# EAGLE library part RESISTOR-PACK-4X (library quadparts_prebuilt)
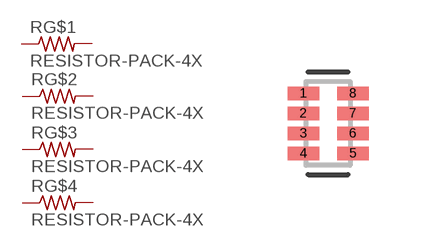
[diagram p5: symbol with the pads of RESCAXS50P200X100X45-8; footprint RESCAXS50P200X100X45-8]

Designator prefix R; gates G$1=RESOLVED-RESISTOR_ G$2=RESOLVED-RESISTOR_ G$3=RESOLVED-RESISTOR_ G$4=RESOLVED-RESISTOR_

## RESISTOR-PACK-4X-1 (CREATOR: Swanson; DESC: RES ARRAY 4 RES 1 OHM 0804; DIST: DIGIKEY; DISTPN: Y101R0CT-ND; MFR: Panasonic Electronic Components; MOUNTING: SMD; MPN: EXB-N8V1R0JX; VALUE: 1)  [RESCAXS50P200X100X45-8]
1  G$4:1  pas
2  G$3:1  pas
3  G$2:1  pas
4  G$1:1  pas
5  G$1:2  pas
6  G$2:2  pas
7  G$3:2  pas
8  G$4:2  pas

## RESISTOR-PACK-4X-100 (CREATOR: Swanson; DESC: RES ARRAY 4 RES 100 OHM 0804; DIST: DIGIKEY; DISTPN: Y10101CT-ND; MFR: Panasonic Electronic Components; MOUNTING: SMD; MPN: EXB-N8V101JX; VALUE: 100)  [RESCAXS50P200X100X45-8]
Pads as for RESCAXS50P200X100X45-8

## RESISTOR-PACK-4X-1.5K (CREATOR: Swanson; DESC: RES ARRAY 4 RES 1.5K OHM 0804; DIST: DIGIKEY; DISTPN: Y10152CT-ND; MFR: Panasonic Electronic Components; MOUNTING: SMD; MPN: EXB-N8V152JX; VALUE: 1.5K)  [RESCAXS50P200X100X45-8]
Pads as for RESCAXS50P200X100X45-8

## RESISTOR-PACK-4X-10K (CREATOR: Swanson; DESC: RES ARRAY 4 RES 10K OHM 0804; DIST: DIGIKEY; DISTPN: Y10103CT-ND; MFR: Panasonic Electronic Components; MOUNTING: SMD; MPN: EXB-N8V103JX; PACKAGE: 0804; VALUE: 10K)  [RESCAXS50P200X100X45-8]
Pads as for RESCAXS50P200X100X45-8

## RESISTOR-PACK-4X-1K (CREATOR: Swanson; DESC: RES ARRAY 4 RES 1K OHM 0804; DIST: DIGIKEY; DISTPN: Y10102CT-ND; MFR: Panasonic Electronic Components; MOUNTING: SMD; MPN: EXB-N8V102JX; VALUE: 1K)  [RESCAXS50P200X100X45-8]
Pads as for RESCAXS50P200X100X45-8

## RESISTOR-PACK-4X-2.2K (CREATOR: Swanson; DESC: RES ARRAY 4 RES 2.2K OHM 0804; DIST: DIGIKEY; DISTPN: Y10222CT-ND; MFR: Panasonic Electronic Components; MOUNTING: SMD; MPN: EXB-N8V222JX; VALUE: 2.2K)  [RESCAXS50P200X100X45-8]
Pads as for RESCAXS50P200X100X45-8

## RESISTOR-PACK-4X-2K (CREATOR: Swanson; DIST: DIGIKEY; DISTPN: Y10202CT-ND; MOUNTING: SMD; VALUE: 2K)  [RESCAXS50P200X100X45-8]
Pads as for RESCAXS50P200X100X45-8

## RESISTOR-PACK-4X-510 (CREATOR: Swanson; DIST: DIGIKEY; DISTPN: Y10511CT-ND; MOUNTING: SMD; VALUE: 510)  [RESCAXS50P200X100X45-8]
Pads as for RESCAXS50P200X100X45-8

## RESISTOR-PACK-4X-750 (CREATOR: Swanson; DIST: DIGIKEY; DISTPN: Y10751CT-ND; MFR: Panasonic Electronic Components; MOUNTING: SMD; MPN: EXB-N8V751JX; VALUE: 750)  [RESCAXS50P200X100X45-8]
Pads as for RESCAXS50P200X100X45-8

## RESISTOR-PACK-4X-1.6K (CREATOR: Swanson; DESC: RES ARRAY 4 RES 1.6K OHM 0804; DIST: Digikey; DISTPN: Y10162CT-ND; MFR: Panasonic Electronic Components; MOUNTING: SMD; VALUE: 1.6K)  [RESCAXS50P200X100X45-8]
Pads as for RESCAXS50P200X100X45-8

## RESISTOR-PACK-4X-1.8K (CREATOR: Swanson; DIST: Digikey; DISTPN: Y10182CT-ND; MFR: Panasonic Electronic Components; MOUNTING: SMD; MPN: EXB-N8V182JX; VALUE: 1.8K)  [RESCAXS50P200X100X45-8]
Pads as for RESCAXS50P200X100X45-8

## Footprint RESCAXS50P200X100X45-8 (pad centres in mm)
8-Chiparray 2-Side Convex, 0.50 mm pitch, 2.00 X 1.00 X 0.45 mm body 8-pin Chiparray 2-Side Convex package with 0.50 mm pitch with body size 2.00 X 1.00 X 0.45 mm
smd 0.79 x 0.339: 1 -0.62,0.75; 2 -0.62,0.25; 3 -0.62,-0.25; 4 -0.62,-0.75; 5 0.62,-0.75; 6 0.62,-0.25; 7 0.62,0.25; 8 0.62,0.75